# Altium schematic symbol library LCD_Controller_Baord.SchLib: 12 symbols
Pins are listed as number, name and electrical type; pins without a type are passive.

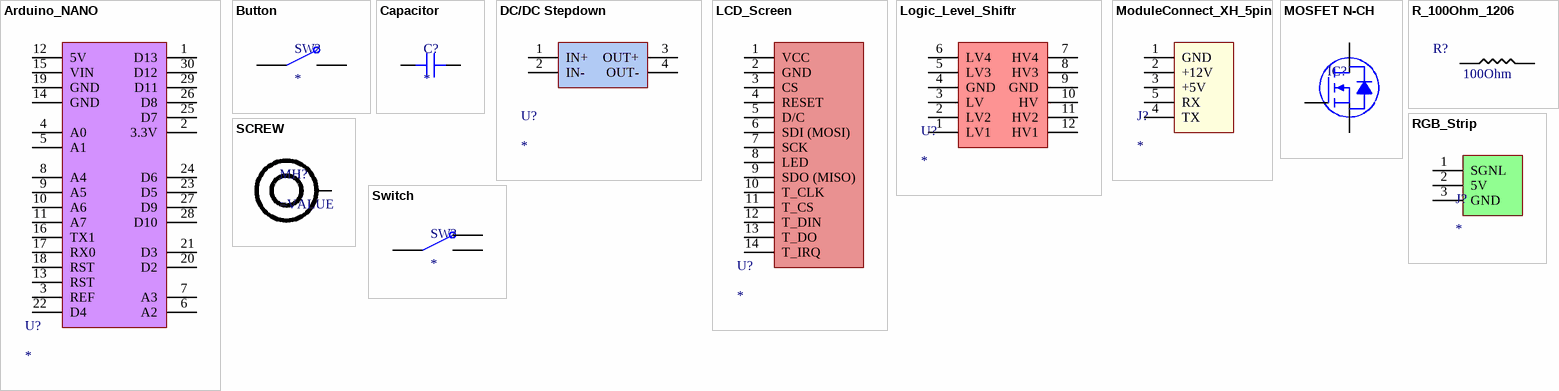
[diagram p0: symbols Arduino_NANO to Switch]

## Arduino_NANO
designator U?
footprint MODULE_ABX00028
pins: 1 D13, 2 3.3V, 3 REF, 4 A0, 5 A1, 6 A2, 7 A3, 8 A4, 9 A5, 10 A6, 11 A7, 12 5V, 13 RST, 14 GND, 15 VIN, 16 TX1, 17 RX0, 18 RST, 19 GND, 20 D2, 21 D3, 22 D4, 23 D5, 24 D6, 25 D7, 26 D8, 27 D9, 28 D10, 29 D11, 30 D12

## Button
designator SW?
footprint SW_FSM8JH
pins: 1, 2

## Capacitor
designator C?
SMT Capacitor; Value: *
footprint CAP 1206 (Chip Resistor, 2-Leads, Body 1.60x0.80mm)
footprint CAP 0603 (Chip Resistor, 2-Leads, Body 1.60x0.80mm)
pins: 1, 2

## DC/DC Stepdown
designator U?
footprint DC/DC Stepdown
pins: 1 IN+, 2 IN-, 3 OUT+, 4 OUT-

## LCD_Screen
designator U?
footprint 14_PIN_LCD
pins: 1 VCC, 2 GND, 3 CS "Selection Signal", 4 RESET, 5 D/C, 6 SDI (MOSI), 7 SCK, 8 LED "Backlight", 9 SDO (MISO), 10 T_CLK, 11 T_CS, 12 T_DIN, 13 T_DO, 14 T_IRQ

## Logic_Level_Shiftr
designator U?
footprint Logic_Shifter
pins: 1 LV1, 2 LV2, 3 LV, 4 GND, 5 LV3, 6 LV4, 7 HV4, 8 HV3, 9 GND, 10 HV, 11 HV2, 12 HV1

## ModuleConnect_XH_5pin
designator J?
footprint JST S5B-XH-A
pins: 1 GND, 2 +12V, 3 +5V, 4 TX, 5 RX

## MOSFET N-CH
designator IC?
footprint SOT-23
pins: 1 G, 2 S, 3 D

## R_100Ohm_1206
designator R?, comment 100Ohm
100Ω ±1% 0.25W ±100ppm/℃ 1206 Chip Resistor - Surface Mount RoHS; MFR Part #: 1206W4F1000T5E; LCSC Part#: C17901; Datasheet: https://datasheet.lcsc.com/lcsc/2206010145_UNI-ROYAL-Uniroyal-Elec-1206W4F1000T5E_C17901.pdf; Type: Basic; Value: 100Ohm
footprint RES 0603 (Chip Resistor, 2-Leads, Body 1.60x0.80mm)
pins: 1, 2

## RGB_Strip
designator J?
footprint JST_S3B-XH-A(LF)(SN)
pins: 1 SGNL, 2 5V, 3 GND

## SCREW
designator MH?
footprint SCREW_M3.0 (M3 Screw Close FIt)
pins: 1

## Switch
designator SW?
footprint EG1218
pins: 1, 2, 3